# Altium schematic symbol library V_4.SchLib: 5 symbols
Pins are listed as number, name and electrical type; pins without a type are passive.

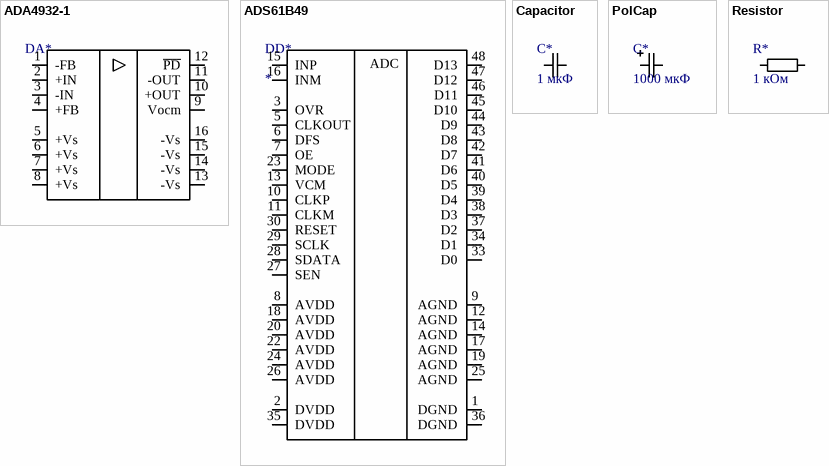
[diagram p0: symbols ADA4932-1 to Resistor]

## ADA4932-1
designator DA*  (value not drawn)
Операционный усилитель для АЦП
pins: 1 -FB, 2 +IN, 3 -IN, 4 +FB, 5 +Vs, 6 +Vs, 7 +Vs, 8 +Vs, 9 Vocm, 10 +OUT, 11 -OUT, 12 ~{PD}, 13 -Vs, 14 -Vs, 15 -Vs, 16 -Vs

## ADS61B49
designator DD*
14-бит АЦП
pins: 1 DGND, 2 DVDD, 3 OVR, 5 CLKOUT, 6 DFS, 7 OE, 8 AVDD, 9 AGND, 10 CLKP, 11 CLKM, 12 AGND, 13 VCM, 14 AGND, 15 INP, 16 INM, 17 AGND, 18 AVDD, 19 AGND, 20 AVDD, 22 AVDD, 23 MODE, 24 AVDD, 25 AGND, 26 AVDD, 27 SEN, 28 SDATA, 29 SCLK, 30 RESET, 33 D0, 34 D1, 35 DVDD, 36 DGND, 37 D2, 38 D3, 39 D4, 40 D5, 41 D6, 42 D7, 43 D8, 44 D9, 45 D10, 46 D11, 47 D12, 48 D13
text: ADC

## Capacitor
designator C*, comment 1 мкФ
Конденсатор
pins: 1, 2

## PolCap
designator С*, comment 1000 мкФ
Электролитический конденсатор
pins: 1, 2

## Resistor
designator R*, comment 1 кОм
Резистор
pins: 1, 2